# EAGLE library part AMS1117CS-1.8 (library AMS1117CS-1.8)
1A LOW DROPOUT VOLTAGE REGULATOR Source: Datasheet <https://datasheet.datasheetarchive.com/originals/distributors/Datasheets-28/DSA-550594.pdf>
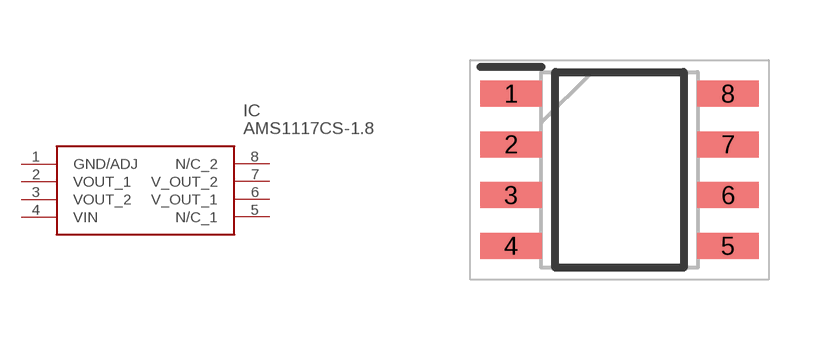
[diagram p0: symbol with the pads of SOIC127P599X175-8N; footprint SOIC127P599X175-8N]

Designator prefix IC

## AMS1117CS-1.8 (Description: 1A LOW DROPOUT VOLTAGE REGULATOR; Height: 1.752mm; Manufacturer_Name: Advanced Monolithic Systems; Manufacturer_Part_Number: AMS1117CS-1.8)  [SOIC127P599X175-8N]
1  GND/ADJ
2  VOUT_1
3  VOUT_2
4  VIN
5  N/C_1
6  V_OUT_1
7  V_OUT_2
8  N/C_2

## Footprint SOIC127P599X175-8N (pad centres in mm)
8 LEAD SOIC_2020
smd 1.526 x 0.65: 1 -2.712,1.905; 2 -2.712,0.635; 3 -2.712,-0.635; 4 -2.712,-1.905; 5 2.712,-1.905; 6 2.712,-0.635; 7 2.712,0.635; 8 2.712,1.905